# EAGLE library part AVAGO-APDS (library talons)
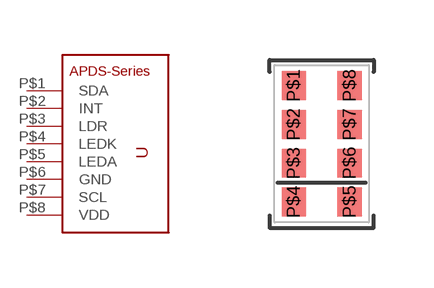
[diagram p7: symbol with the pads of AVAGO-DFN8; footprint AVAGO-DFN8]

Designator prefix -

## AVAGO-APDS-9960  [AVAGO-DFN8]
P$1  SDA
P$2  INT  out
P$3  LDR  in
P$4  LEDK  out
P$5  LEDA  in
P$6  GND  pwr
P$7  SCL  in
P$8  VDD  pwr

## AVAGO-APDS-9190  [AVAGO-DFN8]
Pads as for AVAGO-DFN8

## Footprint AVAGO-DFN8 (pad centres in mm)
smd 0.6 x 0.72: P$1 -0.7,1.455; P$2 -0.7,0.485; P$3 -0.7,-0.485; P$4 -0.7,-1.455; P$5 0.7,-1.455; P$6 0.7,-0.485; P$7 0.7,0.485; P$8 0.7,1.455